# Altium footprint library MSOP9.PcbLib: 1 footprints
Each footprint in its own frame and in the unit in brackets; x right, y up, seen from the top. Pads: shape width x height; smd on the part's side, far side on the other; paste and mask are expansions set on the pad; w line width, h text height; cw(c..) or ccw(c..) is an arc to the next point about the centre after c.
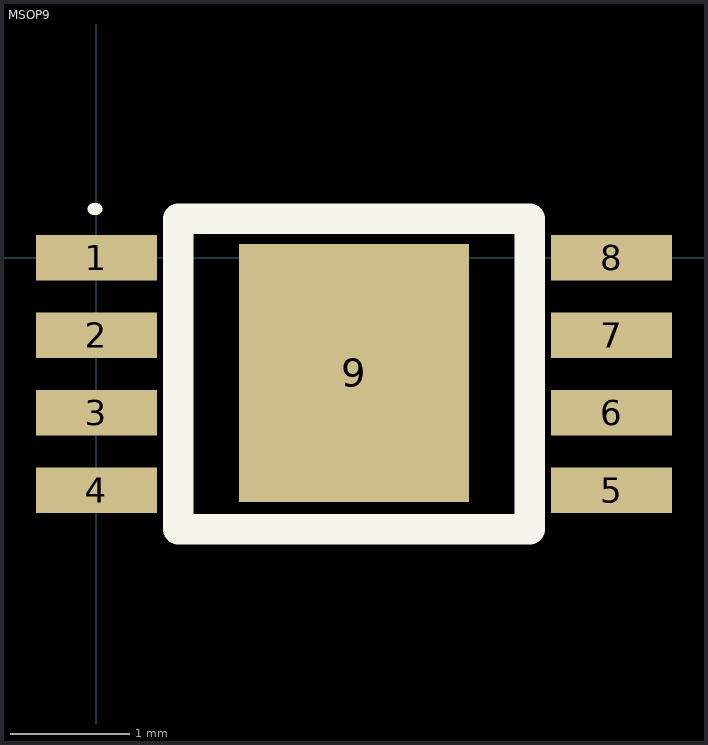
[diagram p0: the footprint, top view; thin cyan lines are the x and y axes]

## MSOP9 [mil]
height 393.7
pads (9):
  rect 40x14.96 smd: 1(0,0) 2(0,-25.59) 3(0,-51.18) 4(0,-76.77) 5(170,-76.77) 6(170,-51.18) 7(170,-25.59) 8(170,0)
  rect 76.06x85.12 smd: 9(85,-38)
TopOverlay:
  lines w3.94: -1,16 0,16
  lines w10: 27,-89.6 27,12.8 58,12.8 65,12.8 105,12.8 143,12.8 143,-89.6 27,-89.6
Mechanical4:
  text ".040" at -12,0 h1